# EAGLE library part SPN1001 (library ic-spin)
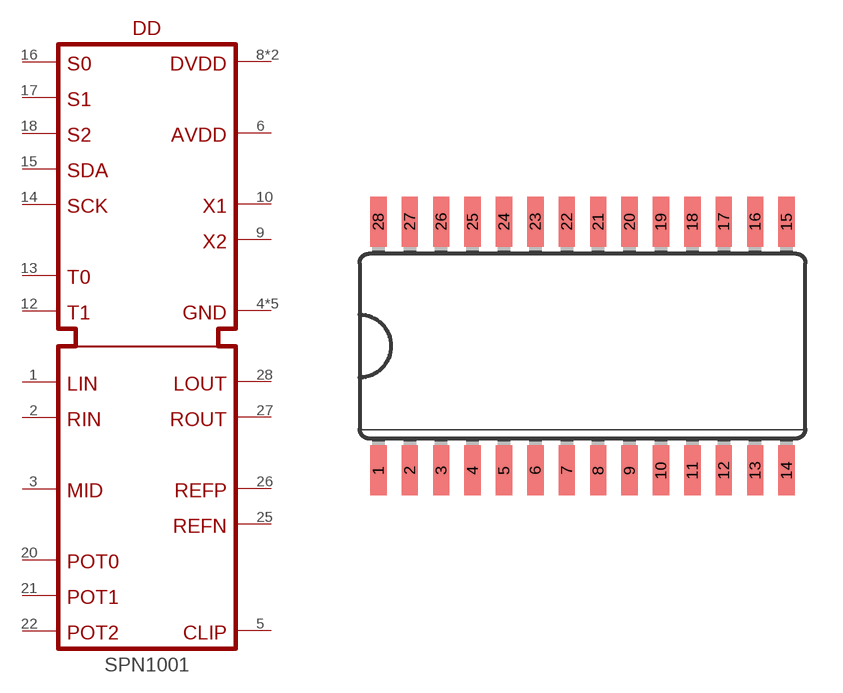
[diagram p0: symbol with the pads of SO28W; footprint SO28W]

Designator prefix DD

## SPN1001  [SO28W]
1  LIN  in
2  RIN  in
3  MID  in
4  GND  in
5  CLIP  in
6  AVDD  in
7  GND  in
8  DVDD  in
9  X2  in
10  X1  in
11  GND  in
12  T1  in
13  T0  in
14  SCK  in
15  SDA  in
16  S0  in
17  S1  in
18  S2  in
19  GND  in
20  POT0  in
21  POT1  in
22  POT2  in
23  DVDD  in
24  GND  in
25  REFN  in
26  REFP  in
27  ROUT  in
28  LOUT  in

## Footprint SO28W (pad centres in mm)
Wide Small Outline package 300 mil
smd 0.66 x 2.032: 1 -8.255,-5.029; 2 -6.985,-5.029; 3 -5.715,-5.029; 4 -4.445,-5.029; 5 -3.175,-5.029; 6 -1.905,-5.029; 7 -0.635,-5.029; 8 0.635,-5.029; 9 1.905,-5.029; 10 3.175,-5.029; 11 4.445,-5.029; 12 5.715,-5.029; 13 6.985,-5.029; 14 8.255,-5.029; 15 8.255,5.029; 16 6.985,5.029; 17 5.715,5.029; 18 4.445,5.029; 19 3.175,5.029; 20 1.905,5.029; 21 0.635,5.029; 22 -0.635,5.029; 23 -1.905,5.029; 24 -3.175,5.029; 25 -4.445,5.029; 26 -5.715,5.029; 27 -6.985,5.029; 28 -8.255,5.029